# EAGLE library part 7PIN-03526? (library RoboJackets-Connectors)
Description: Connector Header Through Hole, 7 position 0.079" (2.00mm) Link H: Digi-Key <https://www.digikey.com/products/en?keywords=0353630760> Link V: Digi-Key <https://www.digikey.com/products/en?keywords=0353620750>
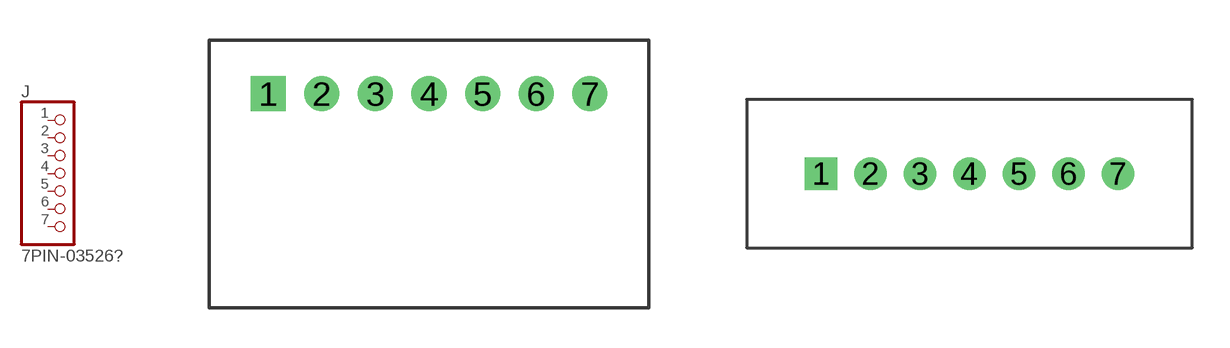
[diagram p1: symbol with the pads of 0353630760; footprints 0353630760, 0353620750]

Designator prefix J

## 7PIN-0352630760 (DKPN: WM18936-ND)  [0353630760]
1  1  pas
2  2  pas
3  3  pas
4  4  pas
5  5  pas
6  6  pas
7  7  pas

## 7PIN-0352620750 (DKPN: WM18925-ND)  [0353620750]
Pads as for 0353630760

## Footprint 0353630760 (pad centres in mm)
drill 0.8 square: 1 -6,0
drill 0.8: 2 -4,0; 3 -2,0; 4 0,0; 5 2,0; 6 4,0; 7 6,0

## Footprint 0353620750 (pad centres in mm)
drill 0.8 square: 1 -6,0
drill 0.8: 2 -4,0; 3 -2,0; 4 0,0; 5 2,0; 6 4,0; 7 6,0